# Altium schematic symbol library PAM2401SCADJ.Schlib: 1 symbol
Pins are listed as number, name and electrical type; pins without a type are passive.

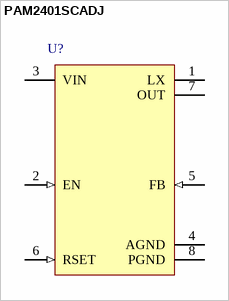
[diagram p0: symbol PAM2401SCADJ]

## PAM2401SCADJ
designator U?
pins: 1 LX, 2 EN (in), 3 VIN (power), 4 AGND (power), 5 FB (in), 6 RSET (in), 7 OUT (power), 8 PGND (power)